# Altium schematic symbol library OPA350UA_2K5.SchLib: 1 symbol
Pins are listed as number, name and electrical type; pins without a type are passive.

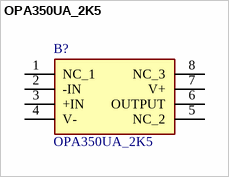
[diagram p0: symbol OPA350UA_2K5]

## OPA350UA_2K5
designator B?
High-Speed, Single-Supply, Rail-to-Rail Operational Amplifiers MicroAmplifier Series; Manufacturer_Name: Texas Instruments; Manufacturer_Part_Number: OPA350UA/2K5; Geometry.Height: 1.75mm; Mouser Part Number: 595-OPA350UA/2K5; Mouser Price/Stock: https://www.mouser.co.uk/ProductDetail/Texas-Instruments/OPA350UA-2K5?qs=7nS3%252BbEUL6sT6%2Fm03FwKkQ%3D%3D; Arrow Part Number: OPA350UA/2K5; Arrow Price/Stock: https://www.arrow.com/en/products/opa350ua2k5/texas-instruments?region=nac; Datasheet Link: http://www.ti.com/lit/gpn/OPA350
footprint SOIC127P600X175-8N
pins: 1 NC_1, 2 -IN, 3 +IN, 4 V-, 5 NC_2, 6 OUTPUT, 7 V+, 8 NC_3